# Altium schematic symbol library ElectrolyticCapacitor.SchLib: 5 symbols
Pins are listed as number, name and electrical type; pins without a type are passive.

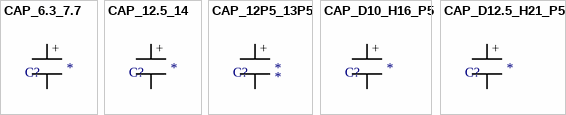
[diagram p0: symbols CAP_6.3_7.7 to CAP_D12.5_H21_P5]

## CAP_6.3_7.7
designator C?, comment ERP_102-2  (value not drawn)
Electrolytic Capacitor SMD 6.3x7.7; Package: 6.3x7.7; Manufacturer 1: *; Manufacturer Part Number 1: *; Supplier 1: *; Supplier Part Number 1: *; ERP: *; Value: *
footprint CAP_6.3_7.7
pins: 1, 2
text: +

## CAP_12.5_14
designator C?
Electrolytic Capacitor SMD; Manufacturer 1: KEMET; Manufacturer Part Number 1: *; Value: *
footprint CAP_12.5_14
pins: 1, 2
text: +

## CAP_12P5_13P5
designator C?
SMD,D12.5xL13.5mm  Aluminum Electrolytic Capacitors - SMD ROHS; Package: 12.5X13.5; Manufacturer 1: *; Manufacturer Part Number 1: *; Voltage: *; Value: *
footprint CAP_12P5_13P5 (SMD,D12.5xL13.5mm)
pins: 1, 2
text: +

## CAP_D10_H16_P5
designator C?, comment ERP_102-2  (value not drawn)
Electrolytic Capacitor Through Hole D10 P5.0; Package: 10X5; Manufacturer 1: *; Manufacturer Part Number 1: *; Supplier 1: *; Value: *
footprint CAP_D10_H16_P5
footprint CAP_D10_H16_P5 - Flat
pins: 1, 2
text: +

## CAP_D12.5_H21_P5
designator C?, comment ERP_102-2  (value not drawn)
Electrolytic Capacitor Through Hole D12.5 P5.0; Package: 12.5X5; Manufacturer 1: *; Manufacturer Part Number 1: *; Supplier 1: *; Value: *
footprint CAP_D12.5_H21_P5 (Through Hole Electrolytic Capacitor Diameter: 12.5mm ± 0.5mm, Height: 21mm ± 1.0mm, Pitch (Lead Spacing): 5mm ± 0.5mm)
pins: 1, 2
text: +